# EAGLE library part FML_1X15 (library header_3d)
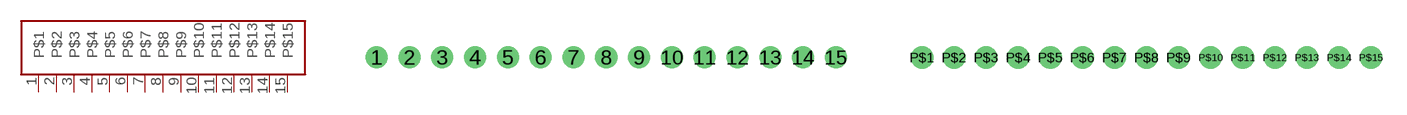
[diagram p1: symbol with the pads of HDRVR15W64P254_1X15_3810X245X800B; footprints HDRVR15W64P254_1X15_3810X245X800B, 1X15_2MM]

Designator prefix -

## FML_1X15  [HDRVR15W64P254_1X15_3810X245X800B]
1  P$1
2  P$2
3  P$3
4  P$4
5  P$5
6  P$6
7  P$7
8  P$8
9  P$9
10  P$10
11  P$11
12  P$12
13  P$13
14  P$14
15  P$15

## FML_1X152MM  [1X15_2MM]
P$1  P$1
P$2  P$2
P$3  P$3
P$4  P$4
P$5  P$5
P$6  P$6
P$7  P$7
P$8  P$8
P$9  P$9
P$10  P$10
P$11  P$11
P$12  P$12
P$13  P$13
P$14  P$14
P$15  P$15

## Footprint HDRVR15W64P254_1X15_3810X245X800B (pad centres in mm)
Single-row, 15-pin Receptacle Header (Female) Straight, 2.54 mm (0.10 in) col pitch, 8.00 mm insulator length, 38.10 X 2.45 X 8.00 mm body Single-row (1X15), 15-pin Receptacle Header (Female) Straight package with 2.54 mm (0.10 in) col pitch, 0.64 mm lead width, 3.00 mm tail length and 8.00 mm insulator length with overall size 38.10 X 2.45 X 8.00 mm, pin pattern - clockwise from top left
drill 1.105 pad 1.705: 1 0,0; 2 2.54,0; 3 5.08,0; 4 7.62,0; 5 10.16,0; 6 12.7,0; 7 15.24,0; 8 17.78,0; 9 20.32,0; 10 22.86,0; 11 25.4,0; 12 27.94,0; 13 30.48,0; 14 33.02,0; 15 35.56,0

## Footprint 1X15_2MM (pad centres in mm)
drill 0.9 pad 1.32: P$1 0,0; P$2 2,0; P$3 4,0; P$4 6,0; P$5 8,0; P$6 10,0; P$7 12,0; P$8 14,0; P$9 16,0; P$10 18,0; P$11 20,0; P$12 22,0; P$13 24,0; P$14 26,0; P$15 28,0